# Altium footprint library GVA-63&plus_.PcbLib: 3 footprints
Each footprint in its own frame and in the unit in brackets; x right, y up, seen from the top. Pads: shape width x height; smd on the part's side, far side on the other; paste and mask are expansions set on the pad; w line width, h text height; cw(c..) or ccw(c..) is an arc to the next point about the centre after c.
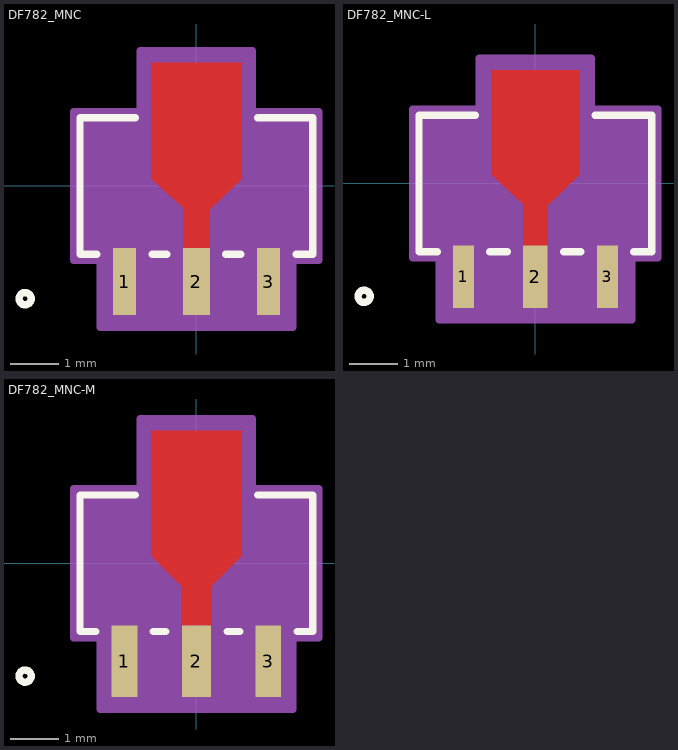
[diagram p0: the footprints below, top view; thin cyan lines are the x and y axes]

## DF782_MNC [mil]
pads (3):
  rect 19x54.87 smd paste+0 mask+0: 1(-59,-78.44) 3(59,-78.44)
  rect 22x54.87 smd paste+0 mask+0: 2(0,-78.44)
Top Layer:
  region: 11,-51 -11,-51 -11,-18 -36.98,6.02 -36.98,100.78 36.98,100.78 36.98,6.02 11,-18.98
Top Overlay:
  circle w6: c-140.5,-92.5 r5
  lines w6: -81.6,-56 -95.5,-56 -95.5,56 -50.08,56 ; -36.4,-56 -24.1,-56 ; 24.1,-56 36.4,-56 ; 50.08,56 95.5,56 95.5,-56 81.6,-56
  text ".Designator" at -137.5,-25 h50
Top Paste:
  region: 11,-51 -11,-51 -11,-18 -36,7 -36,94.87 36,94.87 36,7 11,-18
Top Solder:
  region: 11,-51 -11,-51 -11,-18 -36,7 -36,94.87 36,94.87 36,7 11,-18
Mechanical 13:
  circle w1: c-80.5,-41 r5
  lines w1: -90.5,-51 90.5,-51 90.5,51 -90.5,51 -90.5,-51 ; -68.5,-98 -68.5,-51 -49.5,-51 -49.5,-98 -68.5,-98 ; -11,-98 -11,-51 11,-51 11,-98 -11,-98 ; 49.5,-98 49.5,-51 68.5,-51 68.5,-98 49.5,-98
  text ".Designator" at -137.5,-25 h50
Mechanical 15:
  region: -100.5,-61 -100.5,61 -46,61 -46,110.78 46,110.78 46,61 100.5,61 100.5,-61 79,-61 79,-115.87 -79,-115.87 -79,-61
  lines w6: -100.5,-61 -100.5,61 -46,61 -46,110.78 46,110.78 46,61 100.5,61 100.5,-61 79,-61 79,-115.87 -79,-115.87 -79,-61 -100.5,-61
3D body "DF782_MNC.step": height 65.12, standoff 0, extent -90.51,-97.99 90.51,87.01

## DF782_MNC-L [mil]
pads (3):
  rect 17.03x50.94 smd paste+0 mask+0: 1(-59,-76.47) 3(59,-76.47)
  rect 20.03x50.94 smd paste+0 mask+0: 2(0,-76.47)
Top Layer:
  region: 10.02,-51 -10.02,-51 -10.02,-17.02 -36,7 -36,92.91 36,92.91 36,7 10.02,-18
Top Overlay:
  circle w6: c-140.5,-92.5 r5
  lines w6: -80.62,-56 -95.5,-56 -95.5,56 -49.1,56 ; -37.38,-56 -23.12,-56 ; 23.12,-56 37.38,-56 ; 49.1,56 95.5,56 95.5,-56 80.62,-56
  text ".Designator" at -137.5,-25 h50
Top Paste:
  region: 10.02,-50.02 -10.02,-50.02 -10.02,-17.02 -35.02,7.98 -35.02,90.94 35.02,90.94 35.02,7.98 10.02,-17.02
Top Solder:
  region: 10.02,-50.02 -10.02,-50.02 -10.02,-17.02 -35.02,7.98 -35.02,90.94 35.02,90.94 35.02,7.98 10.02,-17.02
Mechanical 13:
  circle w1: c-80.5,-41 r5
  lines w1: -90.5,-51 90.5,-51 90.5,51 -90.5,51 -90.5,-51 ; -68.5,-98 -68.5,-51 -49.5,-51 -49.5,-98 -68.5,-98 ; -11,-98 -11,-51 11,-51 11,-98 -11,-98 ; 49.5,-98 49.5,-51 68.5,-51 68.5,-98 49.5,-98
  text ".Designator" at -137.5,-25 h50
Mechanical 15:
  region: -100.5,-61 -100.5,61 -46,61 -46,102.91 46,102.91 46,61 100.5,61 100.5,-61 79,-61 79,-111.94 -79,-111.94 -79,-61
  lines w6: -100.5,-61 -100.5,61 -46,61 -46,102.91 46,102.91 46,61 100.5,61 100.5,-61 79,-61 79,-111.94 -79,-111.94 -79,-61 -100.5,-61
3D body "DF782_MNC.step": height 65.12, standoff 0, extent -90.51,-97.99 90.51,87.01

## DF782_MNC-M [mil]
pads (3):
  rect 20.97x58.81 smd paste+0 mask+0: 1(-59,-80.41) 3(59,-80.41)
  rect 23.97x58.81 smd paste+0 mask+0: 2(0,-80.41)
Top Layer:
  region: 11.98,-51 -11.98,-51 -11.98,-18.98 -36.98,6.02 -36.98,108.65 36.98,108.65 36.98,6.02 11.98,-18.98
Top Overlay:
  circle w6: c-140.5,-92.5 r5
  lines w6: -82.58,-56 -95.5,-56 -95.5,56 -50.08,56 ; -35.42,-56 -25.08,-56 ; 25.08,-56 35.42,-56 ; 50.08,56 95.5,56 95.5,-56 82.58,-56
  text ".Designator" at -137.5,-25 h50
Top Paste:
  region: 11.98,-51.98 -11.98,-51.98 -11.98,-18.98 -36.98,6.02 -36.98,98.81 36.98,98.81 36.98,6.02 11.98,-18.98
Top Solder:
  region: 11.98,-51.98 -11.98,-51.98 -11.98,-18.98 -36.98,6.02 -36.98,98.81 36.98,98.81 36.98,6.02 11.98,-18.98
Mechanical 13:
  circle w1: c-80.5,-41 r5
  lines w1: -90.5,-51 90.5,-51 90.5,51 -90.5,51 -90.5,-51 ; -68.5,-98 -68.5,-51 -49.5,-51 -49.5,-98 -68.5,-98 ; -11,-98 -11,-51 11,-51 11,-98 -11,-98 ; 49.5,-98 49.5,-51 68.5,-51 68.5,-98 49.5,-98
  text ".Designator" at -137.5,-25 h50
Mechanical 15:
  region: -100.5,-61 -100.5,61 -46,61 -46,118.65 46,118.65 46,61 100.5,61 100.5,-61 79,-61 79,-119.81 -79,-119.81 -79,-61
  lines w6: -100.5,-61 -100.5,61 -46,61 -46,118.65 46,118.65 46,61 100.5,61 100.5,-61 79,-61 79,-119.81 -79,-119.81 -79,-61 -100.5,-61
3D body "DF782_MNC.step": height 65.12, standoff 0, extent -90.51,-97.99 90.51,87.01